# EAGLE library part TAG_CONNECT_ICSP (library SophiEaglev9)
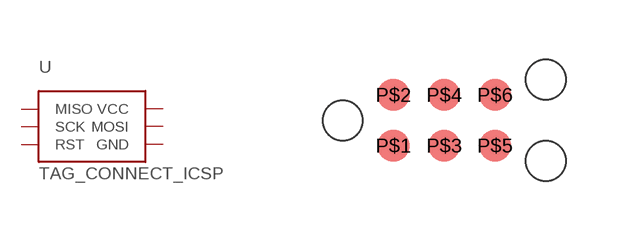
[diagram p9: symbol with the pads of TAG_CONNECT_FTDI; footprint TAG_CONNECT_FTDI]

Designator prefix -

## TAG_CONNECT_ICSP  [TAG_CONNECT_FTDI]
P$1  MISO
P$2  VCC
P$3  SCK
P$4  MOSI
P$5  RST
P$6  GND

## Footprint TAG_CONNECT_FTDI (pad centres in mm)
smd 0.795 x 0.795: P$1 1.27,-0.635; P$2 1.27,0.635; P$3 2.54,-0.635; P$4 2.54,0.635; P$5 3.81,-0.635; P$6 3.81,0.635
hole 0.998 at 0,0
hole 0.998 at 5.08,1.016
hole 0.998 at 5.08,-1.016